# Altium schematic symbol library LM7332MMX_NOPB.SchLib: 1 symbol
Pins are listed as number, name and electrical type; pins without a type are passive.

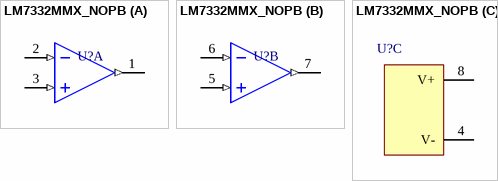
[diagram p0: symbol LM7332MMX_NOPB]

## LM7332MMX_NOPB
designator U?
part A pins: 1 OUTA (out), 2 INA- (in), 3 INA+ (in)
part B pins: 5 INB+ (in), 6 INB- (in), 7 OUTB (out)
part C pins: 4 V- (power), 8 V+ (power)